# Altium schematic symbol library 素材库.SCHLIB: 21 symbols
Pins are listed as number, name and electrical type; pins without a type are passive.

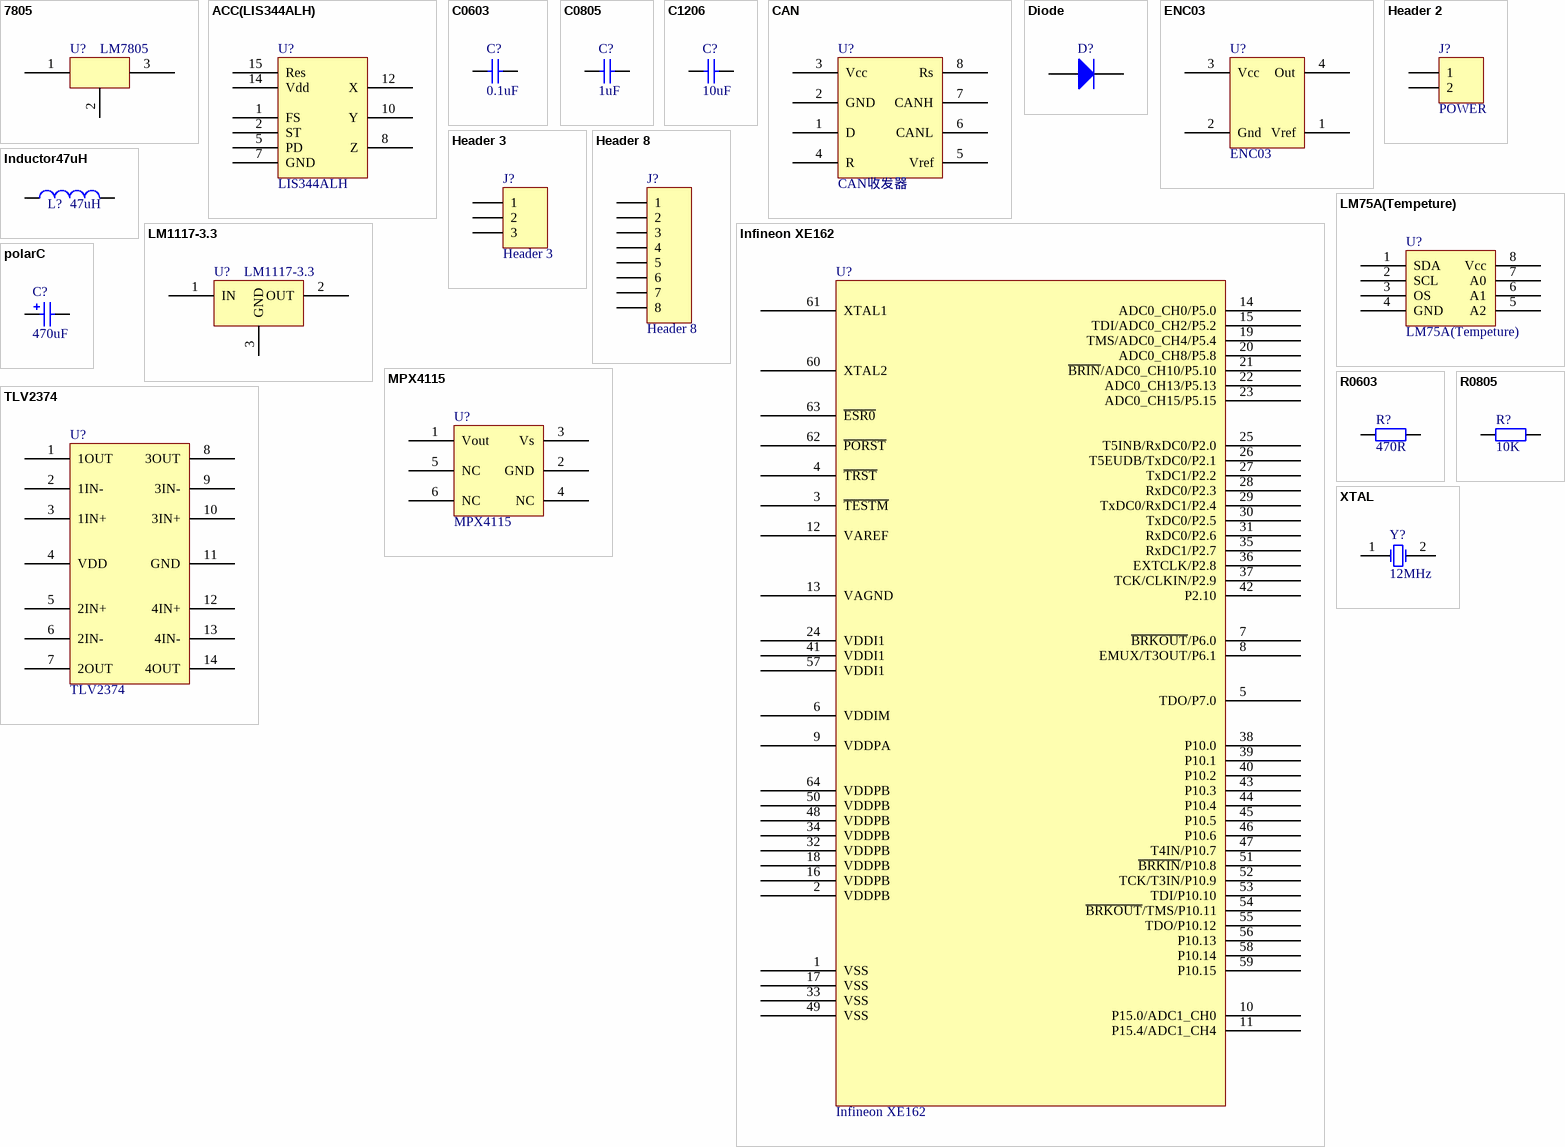
[diagram p0: symbols 7805 to XTAL]

## 7805
designator U?, comment LM7805
footprint TO-220AB (TO, Thru-Hole, Vertical, Heatsink Mounted; 3 In-Line Leads; Pitch 2.54 mm)
pins: 1, 2, 3
2 alternate drawings of the same symbol

## ACC(LIS344ALH)
designator U?, comment LIS344ALH
footprint LIS344ALH(Acc)
pins: 1 FS, 2 ST, 5 PD, 7 GND, 8 Z, 10 Y, 12 X, 14 Vdd, 15 Res
2 alternate drawings of the same symbol

## C0603
designator C?, comment 0.1uF
footprint 1608[0603]
pins: 1, 2
2 alternate drawings of the same symbol

## C0805
designator C?, comment 1uF
footprint C0805
pins: 1, 2
2 alternate drawings of the same symbol

## C1206
designator C?, comment 10uF
footprint C1206 (Chip Capacitor, Body 3.2x1.6mm, IPC High Density)
pins: 1, 2
2 alternate drawings of the same symbol

## CAN
designator U?, comment CAN收发器
footprint CAN
pins: 1 D, 2 GND, 3 Vcc, 4 R, 5 Vref, 6 CANL, 7 CANH, 8 Rs
2 alternate drawings of the same symbol

## Diode
designator D?  (value not drawn)
Default Diode; Published: 8-Jun-2000; LatestRevisionDate: 17-Jul-2002; LatestRevisionNote: Re-released for DXP Platform.; PackageVersion: Sep-1996; PackageReference: SMC; Publisher: Altium Limited; PackageDescription: DO-214-AB/SMC; 2 C-Bend Leads; Body 7.9 x 5.9 mm, inc. leads (LxW); Code_JEDEC: DO-214-AB
footprint SMC (DO-214-AB/SMC; 2 C-Bend Leads; Body 7.9 x 5.9 mm, inc. leads (LxW))
simulation model DIODE (Diode)
signal-integrity model Diode
pins: 1 A, 2 K

## ENC03
designator U?
footprint ENC03
pins: 1 Vref, 2 Gnd, 3 Vcc, 4 Out
2 alternate drawings of the same symbol

## Header 2
designator J?, comment POWER
Header, 2-Pin; LatestRevisionDate: 17-Jul-2002; LatestRevisionNote: Re-released for DXP Platform.; Publisher: Altium Limited
footprint HDR1X2 (Connector; Header; 2 Position)
signal-integrity model Connector
pins: 1, 2

## Header 3
designator J?
Header, 3-Pin; LatestRevisionDate: 17-Jul-2002; LatestRevisionNote: Re-released for DXP Platform.; Publisher: Altium Limited
footprint HDR1X3 (Connector; Header; 3 Position)
signal-integrity model Connector
pins: 1, 2, 3

## Header 8
designator J?
Header, 8-Pin; LatestRevisionDate: 17-Jul-2002; LatestRevisionNote: Re-released for DXP Platform.; Publisher: Altium Limited
footprint HDR1X8 (Connector; Header; 8 Position)
signal-integrity model Connector
pins: 1, 2, 3, 4, 5, 6, 7, 8

## Inductor47uH
designator L?, comment 47uH
footprint DIODE_SMC (Diode; 2 Leads)
pins: 1, 2
2 alternate drawings of the same symbol

## Infineon XE162
designator U?
footprint Infineon XE162
pins: 1 VSS, 2 VDDPB, 3 ~{TESTM}, 4 ~{TRST}, 5 TDO/P7.0, 6 VDDIM, 7 ~{BRKOUT}/P6.0, 8 EMUX/T3OUT/P6.1, 9 VDDPA, 10 P15.0/ADC1_CH0, 11 P15.4/ADC1_CH4, 12 VAREF, 13 VAGND, 14 ADC0_CH0/P5.0, 15 TDI/ADC0_CH2/P5.2, 16 VDDPB, 17 VSS, 18 VDDPB, 19 TMS/ADC0_CH4/P5.4, 20 ADC0_CH8/P5.8, 21 ~{BRIN}/ADC0_CH10/P5.10, 22 ADC0_CH13/P5.13, 23 ADC0_CH15/P5.15, 24 VDDI1, 25 T5INB/RxDC0/P2.0, 26 T5EUDB/TxDC0/P2.1, 27 TxDC1/P2.2, 28 RxDC0/P2.3, 29 TxDC0/RxDC1/P2.4, 30 TxDC0/P2.5, 31 RxDC0/P2.6, 32 VDDPB, 33 VSS, 34 VDDPB, 35 RxDC1/P2.7, 36 EXTCLK/P2.8, 37 TCK/CLKIN/P2.9, 38 P10.0, 39 P10.1, 40 P10.2, 41 VDDI1, 42 P2.10, 43 P10.3, 44 P10.4, 45 P10.5, 46 P10.6, 47 T4IN/P10.7, 48 VDDPB, 49 VSS, 50 VDDPB, 51 ~{BRKIN}/P10.8, 52 TCK/T3IN/P10.9, 53 TDI/P10.10, 54 ~{BRKOUT}/TMS/P10.11, 55 TDO/P10.12, 56 P10.13, 57 VDDI1, 58 P10.14, 59 P10.15, 60 XTAL2, 61 XTAL1, 62 ~{PORST}, 63 ~{ESR0}, 64 VDDPB
2 alternate drawings of the same symbol

## LM75A(Tempeture)
designator U?
footprint LM75A
pins: 1 SDA, 2 SCL, 3 OS, 4 GND, 5 A2, 6 A1, 7 A0, 8 Vcc
2 alternate drawings of the same symbol

## LM1117-3.3
designator U?
footprint LM1117-3.3
pins: 1 IN, 2 OUT, 3 GND
2 alternate drawings of the same symbol

## MPX4115
designator U?
footprint MPX4115
pins: 1 Vout, 2 GND, 3 Vs, 4 NC, 5 NC, 6 NC
2 alternate drawings of the same symbol

## polarC
designator C?, comment 470uF
footprint 470uF-side
pins: 1, 2
2 alternate drawings of the same symbol

## R0603
designator R?, comment 470R
footprint R0603
pins: 1, 2
2 alternate drawings of the same symbol

## R0805
designator R?, comment 10K
footprint 1608[0603]
pins: 1, 2
2 alternate drawings of the same symbol

## TLV2374
designator U?
footprint TLV 2374
pins: 1 1OUT, 2 1IN-, 3 1IN+, 4 VDD, 5 2IN+, 6 2IN-, 7 2OUT, 8 3OUT, 9 3IN-, 10 3IN+, 11 GND, 12 4IN+, 13 4IN-, 14 4OUT
2 alternate drawings of the same symbol

## XTAL
designator Y?, comment 12MHz
Crystal Oscillator; Published: 8-Jun-2000; LatestRevisionDate: 17-Jul-2002; LatestRevisionNote: Re-released for DXP Platform.; PackageReference: R38; Publisher: Altium Limited; PackageDescription: Crystal, Thru-Hole; 2 Leads; Body 3.1 x 8.2 mm (Dia.xH)
footprint R38 (Crystal, Thru-Hole; 2 Leads; Body 3.1 x 8.2 mm (Dia.xH))
simulation model XTAL (Spice Subcircuit)
pins: 1 OSC1, 2 OSC2